# EAGLE library part PCB_DC-DC (library b0l2)
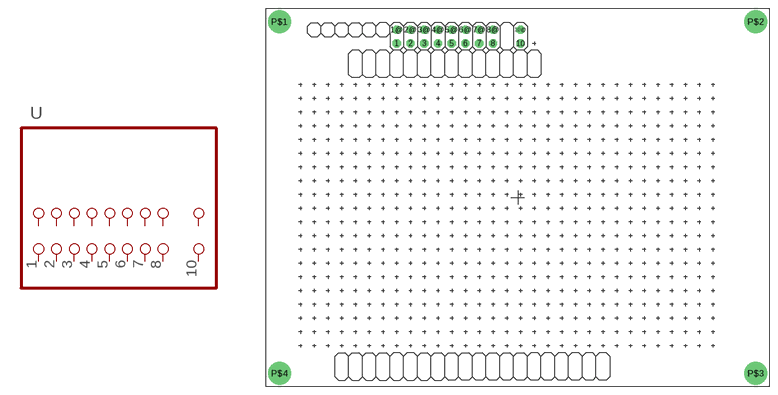
[diagram p2: symbol with the pads of PCB_DC-DC; footprint PCB_DC-DC]

Designator prefix -

## PCB_DC-DC  [PCB_DC-DC]
1  1  pas
1@  2  pas
2  3  pas
2@  4  pas
3  5  pas
3@  6  pas
4  7  pas
4@  8  pas
5  9  pas
5@  10  pas
6  11  pas
6@  12  pas
7  13  pas
7@  14  pas
8  15  pas
8@  16  pas
10  19  pas
10@  20  pas

## Footprint PCB_DC-DC (pad centres in mm)
drill 1.016 octagon: 1 -22.34,28.46; 1@ -22.34,31; 2 -19.8,28.46; 2@ -19.8,31; 3 -17.26,28.46; 3@ -17.26,31; 4 -14.72,28.46; 4@ -14.72,31; 5 -12.18,28.46; 5@ -12.18,31; 6 -9.64,28.46; 6@ -9.64,31; 7 -7.1,28.46; 7@ -7.1,31; 8 -4.56,28.46; 8@ -4.56,31; 10 0.52,28.46; 10@ 0.52,31
drill 3.2 pad 4: P$1 -44,32.5; P$2 44,32.5; P$3 44,-32.5; P$4 -44,-32.5